# Altium integrated library Maxim Amplifiers and Comparators.IntLib: 420 symbols (part 1 of 16)
Pins are listed as number, name and electrical type; pins without a type are passive.

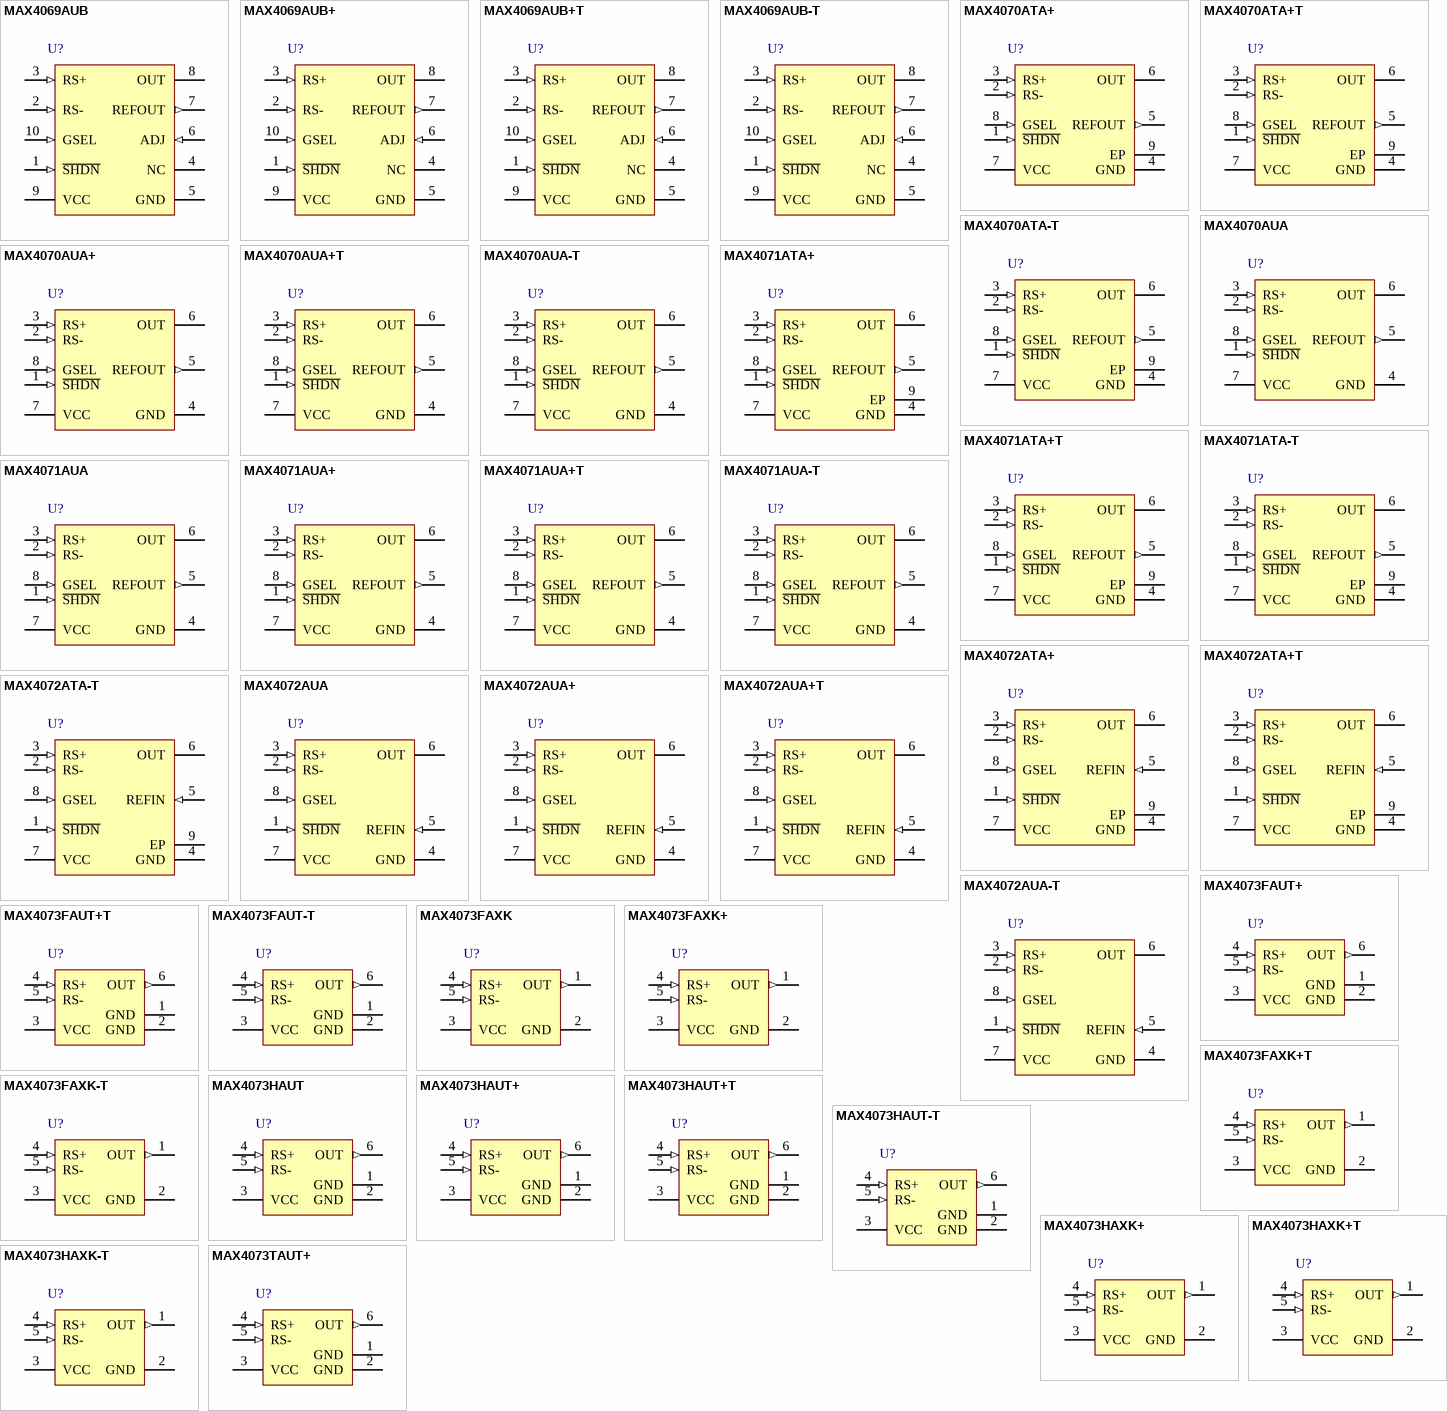
[diagram p0: symbols MAX4069AUB to MAX4073TAUT+]

## MAX4069AUB
designator U?
Bidirectional, High-Side Current-Sense Amplifier with Adjustable Reference, 50 V / V, 100 V / V Gain, -40 to 125 degC, 10-Pin SOP (U10-2); PartNumber: MAX4069AUB; Bi-Dir. Curr. Sense: Yes; Industry Qualified: Automotive - General; DatasheetVersion: Rev. 3; PackageVersion: Rev. L, 07/2008; PackageReference: U10-2; PackageDescription: 10-Pin Micro-MAX, Thin Shrink Small-Outline (U10-2), Body 3 x 3 mm, Pitch 0.5 mm; Supplier 1: Digi-Key; Supplier Part Number 1: MAX4069AUB-ND; Supplier 2: Mouser; Supplier Part Number 2: 700-MAX4069AUB-NR; Gain: 50 V/V, 100 V/V; Mounting Technology: Surface Mount; Code_JEDEC: MO-187; ComponentLink1Description: Manufacturer URL; ComponentLink1URL: http://www.maximintegrated.com/; ComponentLink2Description: Datasheet; ComponentLink2URL: http://datasheets.maximintegrated.com/en/ds/MAX4069-MAX4072.pdf; ComponentLink3Description: Package Specification; ComponentLink3URL: http://pdfserv.maximintegrated.com/package_dwgs/21-0061.PDF
footprint MAXM-U10-2_N (SOP, 10-Leads, Body 3x3mm, Pitch 0.5mm, IPC Medium Density)
footprint MAXM-U10-2_L (SOP, 10-Leads, Body 3x3mm, Pitch 0.5mm, IPC High Density)
footprint MAXM-U10-2_M (SOP, 10-Leads, Body 3x3mm, Pitch 0.5mm, IPC Low Density)
pins: 1 ~{SHDN} (in) "Shutdown Input. Drive S\H\D\N\ low to select shutdown mode. Connect S\H\D\N\ to VCC for normal operation.", 2 RS- (in) "Negative Connection to the External Sense Resistor", 3 RS+ (in) "Positive Connection to the External Sense Resistor", 4 NC "No Connection. Not internally connected.", 5 GND (power) "Ground. For thin QFN packages, also make an external connection from GND to the under-side exposed paddle.", 6 ADJ (in) "Adjustable Output Voltage Feedback Input. Connect a resistor-divider between REFOUT, ADJ, and GND", 7 REFOUT (out) "Reference Output Voltage", 8 OUT (hiz) "Voltage Output. The difference voltage, VOUT - VREF, is proportional to the voltage difference between RS+ and RS- and indicates the correct polarity.", 9 VCC (power) "Supply Voltage Input. Bypass VCC to GND with a 0.1µF capacitor.", 10 GSEL (in) "Gain-Setting Input. Connect GSEL low to select gain = 50V/V, or connect GSEL high to select gain = 100V/V."

## MAX4069AUB+
designator U?
Bidirectional, High-Side Current-Sense Amplifier with Adjustable Reference, 50 V / V, 100 V / V Gain, -40 to 125 degC, 10-Pin SOP (U10+2), Pb-Free; PartNumber: MAX4069AUB+; Bi-Dir. Curr. Sense: Yes; Industry Qualified: Automotive - General; DatasheetVersion: Rev. 3; PackageVersion: Rev. L, 07/2008; PackageReference: U10+2; PackageDescription: 10-Pin Micro-MAX, Thin Shrink Small-Outline (U10+2), Body 3 x 3 mm, Pitch 0.5 mm; Supplier 1: Digi-Key; Supplier Part Number 1: MAX4069AUB+-ND; Supplier 2: Mouser; Supplier Part Number 2: 700-MAX4069AUB; Gain: 50 V/V, 100 V/V; Mounting Technology: Surface Mount; Code_JEDEC: MO-187; ComponentLink1Description: Manufacturer URL; ComponentLink1URL: http://www.maximintegrated.com/; ComponentLink2Description: Datasheet; ComponentLink2URL: http://datasheets.maximintegrated.com/en/ds/MAX4069-MAX4072.pdf; ComponentLink3Description: Package Specification; ComponentLink3URL: http://pdfserv.maximintegrated.com/package_dwgs/21-0061.PDF
footprint MAXM-U10+2_N (SOP, 10-Leads, Body 3x3mm, Pitch 0.5mm, IPC Medium Density)
footprint MAXM-U10+2_L (SOP, 10-Leads, Body 3x3mm, Pitch 0.5mm, IPC High Density)
footprint MAXM-U10+2_M (SOP, 10-Leads, Body 3x3mm, Pitch 0.5mm, IPC Low Density)
pins: 1 ~{SHDN} (in) "Shutdown Input. Drive S\H\D\N\ low to select shutdown mode. Connect S\H\D\N\ to VCC for normal operation.", 2 RS- (in) "Negative Connection to the External Sense Resistor", 3 RS+ (in) "Positive Connection to the External Sense Resistor", 4 NC "No Connection. Not internally connected.", 5 GND (power) "Ground. For thin QFN packages, also make an external connection from GND to the under-side exposed paddle.", 6 ADJ (in) "Adjustable Output Voltage Feedback Input. Connect a resistor-divider between REFOUT, ADJ, and GND", 7 REFOUT (out) "Reference Output Voltage", 8 OUT (hiz) "Voltage Output. The difference voltage, VOUT - VREF, is proportional to the voltage difference between RS+ and RS- and indicates the correct polarity.", 9 VCC (power) "Supply Voltage Input. Bypass VCC to GND with a 0.1µF capacitor.", 10 GSEL (in) "Gain-Setting Input. Connect GSEL low to select gain = 50V/V, or connect GSEL high to select gain = 100V/V."

## MAX4069AUB+T
designator U?
Bidirectional, High-Side Current-Sense Amplifier with Adjustable Reference, 50 V / V, 100 V / V Gain, -40 to 125 degC, 10-Pin SOP (U10+2), Pb-Free, Tape and Reel; PartNumber: MAX4069AUB+T; Bi-Dir. Curr. Sense: Yes; Industry Qualified: Automotive - General; DatasheetVersion: Rev. 3; PackageVersion: Rev. L, 07/2008; PackageReference: U10+2; PackageDescription: 10-Pin Micro-MAX, Thin Shrink Small-Outline (U10+2), Body 3 x 3 mm, Pitch 0.5 mm; Supplier 1: Digi-Key; Supplier Part Number 1: MAX4069AUB+T-ND; Supplier 2: Mouser; Supplier Part Number 2: 700-MAX4069AUB+T; Gain: 50 V/V, 100 V/V; Mounting Technology: Surface Mount; Code_JEDEC: MO-187; ComponentLink1Description: Manufacturer URL; ComponentLink1URL: http://www.maximintegrated.com/; ComponentLink2Description: Datasheet; ComponentLink2URL: http://datasheets.maximintegrated.com/en/ds/MAX4069-MAX4072.pdf; ComponentLink3Description: Package Specification; ComponentLink3URL: http://pdfserv.maximintegrated.com/package_dwgs/21-0061.PDF
footprint MAXM-U10+2_N (SOP, 10-Leads, Body 3x3mm, Pitch 0.5mm, IPC Medium Density)
footprint MAXM-U10+2_L (SOP, 10-Leads, Body 3x3mm, Pitch 0.5mm, IPC High Density)
footprint MAXM-U10+2_M (SOP, 10-Leads, Body 3x3mm, Pitch 0.5mm, IPC Low Density)
pins: 1 ~{SHDN} (in) "Shutdown Input. Drive S\H\D\N\ low to select shutdown mode. Connect S\H\D\N\ to VCC for normal operation.", 2 RS- (in) "Negative Connection to the External Sense Resistor", 3 RS+ (in) "Positive Connection to the External Sense Resistor", 4 NC "No Connection. Not internally connected.", 5 GND (power) "Ground. For thin QFN packages, also make an external connection from GND to the under-side exposed paddle.", 6 ADJ (in) "Adjustable Output Voltage Feedback Input. Connect a resistor-divider between REFOUT, ADJ, and GND", 7 REFOUT (out) "Reference Output Voltage", 8 OUT (hiz) "Voltage Output. The difference voltage, VOUT - VREF, is proportional to the voltage difference between RS+ and RS- and indicates the correct polarity.", 9 VCC (power) "Supply Voltage Input. Bypass VCC to GND with a 0.1µF capacitor.", 10 GSEL (in) "Gain-Setting Input. Connect GSEL low to select gain = 50V/V, or connect GSEL high to select gain = 100V/V."

## MAX4069AUB-T
designator U?
Bidirectional, High-Side Current-Sense Amplifier with Adjustable Reference, 50 V / V, 100 V / V Gain, -40 to 125 degC, 10-Pin SOP (U10-2), Tape and Reel; PartNumber: MAX4069AUB-T; Bi-Dir. Curr. Sense: Yes; Industry Qualified: Automotive - General; DatasheetVersion: Rev. 3; PackageVersion: Rev. L, 07/2008; PackageReference: U10-2; PackageDescription: 10-Pin Micro-MAX, Thin Shrink Small-Outline (U10-2), Body 3 x 3 mm, Pitch 0.5 mm; Supplier 1: Digi-Key; Supplier Part Number 1: MAX4069AUB-T-ND; Supplier 2: Mouser; Supplier Part Number 2: 700-MAX4069AUB-T-; Gain: 50 V/V, 100 V/V; Mounting Technology: Surface Mount; Code_JEDEC: MO-187; ComponentLink1Description: Manufacturer URL; ComponentLink1URL: http://www.maximintegrated.com/; ComponentLink2Description: Datasheet; ComponentLink2URL: http://datasheets.maximintegrated.com/en/ds/MAX4069-MAX4072.pdf; ComponentLink3Description: Package Specification; ComponentLink3URL: http://pdfserv.maximintegrated.com/package_dwgs/21-0061.PDF
footprint MAXM-U10-2_N (SOP, 10-Leads, Body 3x3mm, Pitch 0.5mm, IPC Medium Density)
footprint MAXM-U10-2_L (SOP, 10-Leads, Body 3x3mm, Pitch 0.5mm, IPC High Density)
footprint MAXM-U10-2_M (SOP, 10-Leads, Body 3x3mm, Pitch 0.5mm, IPC Low Density)
pins: 1 ~{SHDN} (in) "Shutdown Input. Drive S\H\D\N\ low to select shutdown mode. Connect S\H\D\N\ to VCC for normal operation.", 2 RS- (in) "Negative Connection to the External Sense Resistor", 3 RS+ (in) "Positive Connection to the External Sense Resistor", 4 NC "No Connection. Not internally connected.", 5 GND (power) "Ground. For thin QFN packages, also make an external connection from GND to the under-side exposed paddle.", 6 ADJ (in) "Adjustable Output Voltage Feedback Input. Connect a resistor-divider between REFOUT, ADJ, and GND", 7 REFOUT (out) "Reference Output Voltage", 8 OUT (hiz) "Voltage Output. The difference voltage, VOUT - VREF, is proportional to the voltage difference between RS+ and RS- and indicates the correct polarity.", 9 VCC (power) "Supply Voltage Input. Bypass VCC to GND with a 0.1µF capacitor.", 10 GSEL (in) "Gain-Setting Input. Connect GSEL low to select gain = 50V/V, or connect GSEL high to select gain = 100V/V."

## MAX4070ATA+
designator U?
Bidirectional, High-Side Current-Sense Amplifier with 2.5 V Reference, 50 V / V, 100 V / V Gain, -40 to 125 degC, 8-Pin SON (T833+2), Pb-Free; PartNumber: MAX4070ATA+; Bi-Dir. Curr. Sense: Yes; Industry Qualified: Automotive - General; DatasheetVersion: Rev. 3; PackageVersion: Rev. J, 08/2009; PackageReference: T833+2; PackageDescription: 8-Pin Plastic Very Very Thin Dual Flatpack No Leads, Exposed Pad (T833+2); Supplier 1: Mouser; Supplier Part Number 1: N/A; Gain: 50 V/V, 100 V/V; Mounting Technology: Surface Mount; Code_JEDEC: MO229; ComponentLink1Description: Manufacturer URL; ComponentLink1URL: http://www.maximintegrated.com/; ComponentLink2Description: Datasheet; ComponentLink2URL: http://datasheets.maximintegrated.com/en/ds/MAX4069-MAX4072.pdf; ComponentLink3Description: Package Specification; ComponentLink3URL: http://pdfserv.maximintegrated.com/package_dwgs/21-0137.PDF
footprint MAXM-T833+2_V (SON, 8-Leads, Body 3x3 mm, Pitch 0.65mm, Thermal Pad 2.3x1.5mm)
pins: 1 ~{SHDN} (in) "Shutdown Input. Drive S\H\D\N\ low to select shutdown mode. Connect S\H\D\N\ to VCC for normal operation.", 2 RS- (in) "Negative Connection to the External Sense Resistor", 3 RS+ (in) "Positive Connection to the External Sense Resistor", 4 GND (power) "Ground. For thin QFN packages, also make an external connection from GND to the under-side exposed paddle.", 5 REFOUT (out) "Reference Output Voltage.", 6 OUT (hiz) "Voltage Output. The difference voltage, VOUT - VREF, is proportional to the voltage difference between RS+ and RS- and indicates the correct polarity.", 7 VCC (power) "Supply Voltage Input. Bypass VCC to GND with a 0.1uF capacitor.", 8 GSEL (in) "Gain-Setting Input. Connect GSEL low to select gain = 50V/V, or connect GSEL high to select gain = 100V/V.", 9 EP (power) "Exposed pad."

## MAX4070ATA+T
designator U?
Bidirectional, High-Side Current-Sense Amplifier with 2.5 V Reference, 50 V / V, 100 V / V Gain, -40 to 125 degC, 8-Pin SON (T833+2), Pb-Free, Tape and Reel; PartNumber: MAX4070ATA+T; Bi-Dir. Curr. Sense: Yes; Industry Qualified: Automotive - General; DatasheetVersion: Rev. 3; PackageVersion: Rev. J, 08/2009; PackageReference: T833+2; PackageDescription: 8-Pin Plastic Very Very Thin Dual Flatpack No Leads, Exposed Pad (T833+2); Supplier 1: Digi-Key; Supplier Part Number 1: MAX4070ATA+T-ND; Supplier 2: Mouser; Supplier Part Number 2: 700-MAX4070ATA+T; Gain: 50 V/V, 100 V/V; Mounting Technology: Surface Mount; Code_JEDEC: MO229; ComponentLink1Description: Manufacturer URL; ComponentLink1URL: http://www.maximintegrated.com/; ComponentLink2Description: Datasheet; ComponentLink2URL: http://datasheets.maximintegrated.com/en/ds/MAX4069-MAX4072.pdf; ComponentLink3Description: Package Specification; ComponentLink3URL: http://pdfserv.maximintegrated.com/package_dwgs/21-0137.PDF
footprint MAXM-T833+2_V (SON, 8-Leads, Body 3x3 mm, Pitch 0.65mm, Thermal Pad 2.3x1.5mm)
pins: 1 ~{SHDN} (in) "Shutdown Input. Drive S\H\D\N\ low to select shutdown mode. Connect S\H\D\N\ to VCC for normal operation.", 2 RS- (in) "Negative Connection to the External Sense Resistor", 3 RS+ (in) "Positive Connection to the External Sense Resistor", 4 GND (power) "Ground. For thin QFN packages, also make an external connection from GND to the under-side exposed paddle.", 5 REFOUT (out) "Reference Output Voltage.", 6 OUT (hiz) "Voltage Output. The difference voltage, VOUT - VREF, is proportional to the voltage difference between RS+ and RS- and indicates the correct polarity.", 7 VCC (power) "Supply Voltage Input. Bypass VCC to GND with a 0.1uF capacitor.", 8 GSEL (in) "Gain-Setting Input. Connect GSEL low to select gain = 50V/V, or connect GSEL high to select gain = 100V/V.", 9 EP (power) "Exposed pad."

## MAX4070ATA-T
designator U?
Bidirectional, High-Side Current-Sense Amplifier with 2.5 V Reference, 50 V / V, 100 V / V Gain, -40 to 125 degC, 8-Pin SON (T833-2), Tape and Reel; PartNumber: MAX4070ATA-T; Bi-Dir. Curr. Sense: Yes; Industry Qualified: Automotive - General; DatasheetVersion: Rev. 3; PackageVersion: Rev. J, 08/2009; PackageReference: T833-2; PackageDescription: 8-Pin Plastic Very Very Thin Dual Flatpack No Leads, Exposed Pad, Body 3 x 3 mm, Pitch 0.65 mm; Supplier 1: Digi-Key; Supplier Part Number 1: MAX4070ATA-T-ND; Supplier 2: Mouser; Supplier Part Number 2: 700-MAX4070ATA-T-; Gain: 50 V/V, 100 V/V; Mounting Technology: Surface Mount; Code_JEDEC: MO229; ComponentLink1Description: Manufacturer URL; ComponentLink1URL: http://www.maximintegrated.com/; ComponentLink2Description: Datasheet; ComponentLink2URL: http://datasheets.maximintegrated.com/en/ds/MAX4069-MAX4072.pdf; ComponentLink3Description: Package Specification; ComponentLink3URL: http://pdfserv.maximintegrated.com/package_dwgs/21-0137.PDF
footprint MAXM-T833-2_V (SON, 8-Leads, Body 3x3mm, Pitch 0.65mm, Thermal Pad 2.3x1.5mm, Recommended)
pins: 1 ~{SHDN} (in) "Shutdown Input. Drive S\H\D\N\ low to select shutdown mode. Connect S\H\D\N\ to VCC for normal operation.", 2 RS- (in) "Negative Connection to the External Sense Resistor", 3 RS+ (in) "Positive Connection to the External Sense Resistor", 4 GND (power) "Ground. For thin QFN packages, also make an external connection from GND to the under-side exposed paddle.", 5 REFOUT (out) "Reference Output Voltage.", 6 OUT (hiz) "Voltage Output. The difference voltage, VOUT - VREF, is proportional to the voltage difference between RS+ and RS- and indicates the correct polarity.", 7 VCC (power) "Supply Voltage Input. Bypass VCC to GND with a 0.1uF capacitor.", 8 GSEL (in) "Gain-Setting Input. Connect GSEL low to select gain = 50V/V, or connect GSEL high to select gain = 100V/V.", 9 EP (power) "Exposed pad."

## MAX4070AUA
designator U?
Bidirectional, High-Side Current-Sense Amplifier with 2.5 V Reference, 50 V / V, 100 V / V Gain, -40 to 125 degC, 8-Pin SOP (U8-1); PartNumber: MAX4070AUA; Bi-Dir. Curr. Sense: Yes; Industry Qualified: Automotive - General; DatasheetVersion: Rev. 3; PackageVersion: Rev. L, 08/2009; PackageReference: U8-1; PackageDescription: 8-Pin Micro-MAX, Thin Shrink Small-Outline (U8-1), Body 3 x 3 mm, Pitch 0.65mm; Supplier 1: Digi-Key; Supplier Part Number 1: MAX4070AUA-ND; Supplier 2: Mouser; Supplier Part Number 2: 700-MAX4070AUA-NR; Gain: 50 V/V, 100 V/V; Mounting Technology: Surface Mount; Code_JEDEC: MO-187; ComponentLink1Description: Manufacturer URL; ComponentLink1URL: http://www.maximintegrated.com/; ComponentLink2Description: Datasheet; ComponentLink2URL: http://datasheets.maximintegrated.com/en/ds/MAX4069-MAX4072.pdf; ComponentLink3Description: Package Specification; ComponentLink3URL: http://pdfserv.maximintegrated.com/package_dwgs/21-0036.PDF
footprint MAXM-U8-1_N (SOP, 8-Leads, Body 3x3mm, Pitch 0.65mm, IPC Medium Density)
footprint MAXM-U8-1_L (SOP, 8-Leads, Body 3x3mm, Pitch 0.65mm, IPC High Density)
footprint MAXM-U8-1_M (SOP, 8-Leads, Body 3x3mm, Pitch 0.65mm, IPC Low Density)
pins: 1 ~{SHDN} (in) "Shutdown Input. Drive SHDN low to select shutdown mode. Connect SHDN to VCC for normal operation.", 2 RS- (in) "Negative Connection to the External Sense Resistor", 3 RS+ (in) "Positive Connection to the External Sense Resistor", 4 GND (power) "Ground. For thin QFN packages, also make an external connection from GND to the under-side exposed paddle.", 5 REFOUT (out) "Reference Output Voltage.", 6 OUT (hiz) "Voltage Output. The difference voltage, VOUT - VREF, is proportional to the voltage difference between RS+ and RS- and indicates the correct polarity.", 7 VCC (power) "Supply Voltage Input. Bypass VCC to GND with a 0.1uF capacitor.", 8 GSEL (in) "Gain-Setting Input. Connect GSEL low to select gain = 50V/V, or connect GSEL high to select gain = 100V/V."

## MAX4070AUA+
designator U?
Bidirectional, High-Side Current-Sense Amplifier with 2.5 V Reference, 50 V / V, 100 V / V Gain, -40 to 125 degC, 8-Pin SOP (U8+1), Pb-Free; PartNumber: MAX4070AUA+; Bi-Dir. Curr. Sense: Yes; Industry Qualified: Automotive - General; DatasheetVersion: Rev. 3; PackageVersion: Rev. L, 08/2009; PackageReference: U8+1; PackageDescription: 8-Pin Micro-MAX, Thin Shrink Small-Outline (U8+1), Body 3 x 3 mm, Pitch 0.65 mm; Supplier 1: Digi-Key; Supplier Part Number 1: MAX4070AUA+-ND; Supplier 2: Mouser; Supplier Part Number 2: 700-MAX4070AUA; Gain: 50 V/V, 100 V/V; Mounting Technology: Surface Mount; Code_JEDEC: MO-187; ComponentLink1Description: Manufacturer URL; ComponentLink1URL: http://www.maximintegrated.com/; ComponentLink2Description: Datasheet; ComponentLink2URL: http://datasheets.maximintegrated.com/en/ds/MAX4069-MAX4072.pdf; ComponentLink3Description: Package Specification; ComponentLink3URL: http://pdfserv.maximintegrated.com/package_dwgs/21-0036.PDF
footprint MAXM-U8+1_N (SOP, 8-Leads, Body 3x3mm, Pitch 0.65mm, IPC Medium Density)
footprint MAXM-U8+1_L (SOP, 8-Leads, Body 3x3mm, Pitch 0.65mm, IPC High Density)
footprint MAXM-U8+1_M (SOP, 8-Leads, Body 3x3mm, Pitch 0.65mm, IPC Low Density)
pins: 1 ~{SHDN} (in) "Shutdown Input. Drive SHDN low to select shutdown mode. Connect SHDN to VCC for normal operation.", 2 RS- (in) "Negative Connection to the External Sense Resistor", 3 RS+ (in) "Positive Connection to the External Sense Resistor", 4 GND (power) "Ground. For thin QFN packages, also make an external connection from GND to the under-side exposed paddle.", 5 REFOUT (out) "Reference Output Voltage.", 6 OUT (hiz) "Voltage Output. The difference voltage, VOUT - VREF, is proportional to the voltage difference between RS+ and RS- and indicates the correct polarity.", 7 VCC (power) "Supply Voltage Input. Bypass VCC to GND with a 0.1uF capacitor.", 8 GSEL (in) "Gain-Setting Input. Connect GSEL low to select gain = 50V/V, or connect GSEL high to select gain = 100V/V."

## MAX4070AUA+T
designator U?
Bidirectional, High-Side Current-Sense Amplifier with 2.5 V Reference, 50 V / V, 100 V / V Gain, -40 to 125 degC, 8-Pin SOP (U8+1), Pb-Free, Tape and Reel; PartNumber: MAX4070AUA+T; Bi-Dir. Curr. Sense: Yes; Industry Qualified: Automotive - General; DatasheetVersion: Rev. 3; PackageVersion: Rev. L, 08/2009; PackageReference: U8+1; PackageDescription: 8-Pin Micro-MAX, Thin Shrink Small-Outline (U8+1), Body 3 x 3 mm, Pitch 0.65 mm; Supplier 1: Digi-Key; Supplier Part Number 1: MAX4070AUA+T-ND; Supplier 2: Mouser; Supplier Part Number 2: 700-MAX4070AUA+T; Gain: 50 V/V, 100 V/V; Mounting Technology: Surface Mount; Code_JEDEC: MO-187; ComponentLink1Description: Manufacturer URL; ComponentLink1URL: http://www.maximintegrated.com/; ComponentLink2Description: Datasheet; ComponentLink2URL: http://datasheets.maximintegrated.com/en/ds/MAX4069-MAX4072.pdf; ComponentLink3Description: Package Specification; ComponentLink3URL: http://pdfserv.maximintegrated.com/package_dwgs/21-0036.PDF
footprint MAXM-U8+1_N (SOP, 8-Leads, Body 3x3mm, Pitch 0.65mm, IPC Medium Density)
footprint MAXM-U8+1_L (SOP, 8-Leads, Body 3x3mm, Pitch 0.65mm, IPC High Density)
footprint MAXM-U8+1_M (SOP, 8-Leads, Body 3x3mm, Pitch 0.65mm, IPC Low Density)
pins: 1 ~{SHDN} (in) "Shutdown Input. Drive SHDN low to select shutdown mode. Connect SHDN to VCC for normal operation.", 2 RS- (in) "Negative Connection to the External Sense Resistor", 3 RS+ (in) "Positive Connection to the External Sense Resistor", 4 GND (power) "Ground. For thin QFN packages, also make an external connection from GND to the under-side exposed paddle.", 5 REFOUT (out) "Reference Output Voltage.", 6 OUT (hiz) "Voltage Output. The difference voltage, VOUT - VREF, is proportional to the voltage difference between RS+ and RS- and indicates the correct polarity.", 7 VCC (power) "Supply Voltage Input. Bypass VCC to GND with a 0.1uF capacitor.", 8 GSEL (in) "Gain-Setting Input. Connect GSEL low to select gain = 50V/V, or connect GSEL high to select gain = 100V/V."

## MAX4070AUA-T
designator U?
Bidirectional, High-Side Current-Sense Amplifier with 2.5 V Reference, 50 V / V, 100 V / V Gain, -40 to 125 degC, 8-Pin SOP (U8-1), Tape and Reel; PartNumber: MAX4070AUA-T; Bi-Dir. Curr. Sense: Yes; Industry Qualified: Automotive - General; DatasheetVersion: Rev. 3; PackageVersion: Rev. L, 08/2009; PackageReference: U8-1; PackageDescription: 8-Pin Micro-MAX, Thin Shrink Small-Outline (U8-1), Body 3 x 3 mm, Pitch 0.65mm; Supplier 1: Digi-Key; Supplier Part Number 1: MAX4070AUA-T-ND; Supplier 2: Mouser; Supplier Part Number 2: 700-MAX4070AUA-T-; Gain: 50 V/V, 100 V/V; Mounting Technology: Surface Mount; Code_JEDEC: MO-187; ComponentLink1Description: Manufacturer URL; ComponentLink1URL: http://www.maximintegrated.com/; ComponentLink2Description: Datasheet; ComponentLink2URL: http://datasheets.maximintegrated.com/en/ds/MAX4069-MAX4072.pdf; ComponentLink3Description: Package Specification; ComponentLink3URL: http://pdfserv.maximintegrated.com/package_dwgs/21-0036.PDF
footprint MAXM-U8-1_N (SOP, 8-Leads, Body 3x3mm, Pitch 0.65mm, IPC Medium Density)
footprint MAXM-U8-1_L (SOP, 8-Leads, Body 3x3mm, Pitch 0.65mm, IPC High Density)
footprint MAXM-U8-1_M (SOP, 8-Leads, Body 3x3mm, Pitch 0.65mm, IPC Low Density)
pins: 1 ~{SHDN} (in) "Shutdown Input. Drive SHDN low to select shutdown mode. Connect SHDN to VCC for normal operation.", 2 RS- (in) "Negative Connection to the External Sense Resistor", 3 RS+ (in) "Positive Connection to the External Sense Resistor", 4 GND (power) "Ground. For thin QFN packages, also make an external connection from GND to the under-side exposed paddle.", 5 REFOUT (out) "Reference Output Voltage.", 6 OUT (hiz) "Voltage Output. The difference voltage, VOUT - VREF, is proportional to the voltage difference between RS+ and RS- and indicates the correct polarity.", 7 VCC (power) "Supply Voltage Input. Bypass VCC to GND with a 0.1uF capacitor.", 8 GSEL (in) "Gain-Setting Input. Connect GSEL low to select gain = 50V/V, or connect GSEL high to select gain = 100V/V."

## MAX4071ATA+
designator U?
Bidirectional, High-Side Current-Sense Amplifier with 1.5 V Reference, 50 V / V, 100 V / V Gain, -40 to 125 degC, 8-Pin SON (T833+2), Pb-Free; PartNumber: MAX4071ATA+; Bi-Dir. Curr. Sense: Yes; Industry Qualified: Automotive - General; DatasheetVersion: Rev. 3; PackageVersion: Rev. J, 08/2009; PackageReference: T833+2; PackageDescription: 8-Pin Plastic Very Very Thin Dual Flatpack No Leads, Exposed Pad (T833+2); Supplier 1: Mouser; Supplier Part Number 1: N/A; Gain: 50 V/V, 100 V/V; Mounting Technology: Surface Mount; Code_JEDEC: MO229; ComponentLink1Description: Manufacturer URL; ComponentLink1URL: http://www.maximintegrated.com/; ComponentLink2Description: Datasheet; ComponentLink2URL: http://datasheets.maximintegrated.com/en/ds/MAX4069-MAX4072.pdf; ComponentLink3Description: Package Specification; ComponentLink3URL: http://pdfserv.maximintegrated.com/package_dwgs/21-0137.PDF
footprint MAXM-T833+2_V (SON, 8-Leads, Body 3x3 mm, Pitch 0.65mm, Thermal Pad 2.3x1.5mm)
pins: 1 ~{SHDN} (in) "Shutdown Input. Drive S\H\D\N\ low to select shutdown mode. Connect S\H\D\N\ to VCC for normal operation.", 2 RS- (in) "Negative Connection to the External Sense Resistor", 3 RS+ (in) "Positive Connection to the External Sense Resistor", 4 GND (power) "Ground. For thin QFN packages, also make an external connection from GND to the under-side exposed paddle.", 5 REFOUT (out) "Reference Output Voltage.", 6 OUT (hiz) "Voltage Output. The difference voltage, VOUT - VREF, is proportional to the voltage difference between RS+ and RS- and indicates the correct polarity.", 7 VCC (power) "Supply Voltage Input. Bypass VCC to GND with a 0.1uF capacitor.", 8 GSEL (in) "Gain-Setting Input. Connect GSEL low to select gain = 50V/V, or connect GSEL high to select gain = 100V/V.", 9 EP (power) "Exposed pad."

## MAX4071ATA+T
designator U?
Bidirectional, High-Side Current-Sense Amplifier with 1.5 V Reference, 50 V / V, 100 V / V Gain, -40 to 125 degC, 8-Pin SON (T833+2), Pb-Free, Tape and Reel; PartNumber: MAX4071ATA+T; Bi-Dir. Curr. Sense: Yes; Industry Qualified: Automotive - General; DatasheetVersion: Rev. 3; PackageVersion: Rev. J, 08/2009; PackageReference: T833+2; PackageDescription: 8-Pin Plastic Very Very Thin Dual Flatpack No Leads, Exposed Pad (T833+2); Supplier 1: Digi-Key; Supplier Part Number 1: MAX4071ATA+TTR-ND; Supplier 2: Digi-Key; Supplier Part Number 2: MAX4071ATA+TCT-ND; Supplier 3: Digi-Key; Supplier Part Number 3: MAX4071ATA+TDKR-ND; Supplier 4: Mouser; Supplier Part Number 4: 700-MAX4071ATA+T; Gain: 50 V/V, 100 V/V; Mounting Technology: Surface Mount; Code_JEDEC: MO229; ComponentLink1Description: Manufacturer URL; ComponentLink1URL: http://www.maximintegrated.com/; ComponentLink2Description: Datasheet; ComponentLink2URL: http://datasheets.maximintegrated.com/en/ds/MAX4069-MAX4072.pdf; ComponentLink3Description: Package Specification; ComponentLink3URL: http://pdfserv.maximintegrated.com/package_dwgs/21-0137.PDF
footprint MAXM-T833+2_V (SON, 8-Leads, Body 3x3 mm, Pitch 0.65mm, Thermal Pad 2.3x1.5mm)
pins: 1 ~{SHDN} (in) "Shutdown Input. Drive S\H\D\N\ low to select shutdown mode. Connect S\H\D\N\ to VCC for normal operation.", 2 RS- (in) "Negative Connection to the External Sense Resistor", 3 RS+ (in) "Positive Connection to the External Sense Resistor", 4 GND (power) "Ground. For thin QFN packages, also make an external connection from GND to the under-side exposed paddle.", 5 REFOUT (out) "Reference Output Voltage.", 6 OUT (hiz) "Voltage Output. The difference voltage, VOUT - VREF, is proportional to the voltage difference between RS+ and RS- and indicates the correct polarity.", 7 VCC (power) "Supply Voltage Input. Bypass VCC to GND with a 0.1uF capacitor.", 8 GSEL (in) "Gain-Setting Input. Connect GSEL low to select gain = 50V/V, or connect GSEL high to select gain = 100V/V.", 9 EP (power) "Exposed pad."

## MAX4071ATA-T
designator U?
Bidirectional, High-Side Current-Sense Amplifier with 1.5 V Reference, 50 V / V, 100 V / V Gain, -40 to 125 degC, 8-Pin SON (T833-2), Tape and Reel; PartNumber: MAX4071ATA-T; Bi-Dir. Curr. Sense: Yes; Industry Qualified: Automotive - General; DatasheetVersion: Rev. 3; PackageVersion: Rev. J, 08/2009; PackageReference: T833-2; PackageDescription: 8-Pin Plastic Very Very Thin Dual Flatpack No Leads, Exposed Pad, Body 3 x 3 mm, Pitch 0.65 mm; Supplier 1: Digi-Key; Supplier Part Number 1: MAX4071ATA-T-ND; Supplier 2: Mouser; Supplier Part Number 2: 700-MAX4071ATA-T-; Gain: 50 V/V, 100 V/V; Mounting Technology: Surface Mount; Code_JEDEC: MO229; ComponentLink1Description: Manufacturer URL; ComponentLink1URL: http://www.maximintegrated.com/; ComponentLink2Description: Datasheet; ComponentLink2URL: http://datasheets.maximintegrated.com/en/ds/MAX4069-MAX4072.pdf; ComponentLink3Description: Package Specification; ComponentLink3URL: http://pdfserv.maximintegrated.com/package_dwgs/21-0137.PDF
footprint MAXM-T833-2_V (SON, 8-Leads, Body 3x3mm, Pitch 0.65mm, Thermal Pad 2.3x1.5mm, Recommended)
pins: 1 ~{SHDN} (in) "Shutdown Input. Drive S\H\D\N\ low to select shutdown mode. Connect S\H\D\N\ to VCC for normal operation.", 2 RS- (in) "Negative Connection to the External Sense Resistor", 3 RS+ (in) "Positive Connection to the External Sense Resistor", 4 GND (power) "Ground. For thin QFN packages, also make an external connection from GND to the under-side exposed paddle.", 5 REFOUT (out) "Reference Output Voltage.", 6 OUT (hiz) "Voltage Output. The difference voltage, VOUT - VREF, is proportional to the voltage difference between RS+ and RS- and indicates the correct polarity.", 7 VCC (power) "Supply Voltage Input. Bypass VCC to GND with a 0.1uF capacitor.", 8 GSEL (in) "Gain-Setting Input. Connect GSEL low to select gain = 50V/V, or connect GSEL high to select gain = 100V/V.", 9 EP (power) "Exposed pad."

## MAX4071AUA
designator U?
Bidirectional, High-Side Current-Sense Amplifier with 1.5 V Reference, 50 V / V, 100 V / V Gain, -40 to 125 degC, 8-Pin SOP (U8-1); PartNumber: MAX4071AUA; Bi-Dir. Curr. Sense: Yes; Industry Qualified: Automotive - General; DatasheetVersion: Rev. 3; PackageVersion: Rev. L, 08/2009; PackageReference: U8-1; PackageDescription: 8-Pin Micro-MAX, Thin Shrink Small-Outline (U8-1), Body 3 x 3 mm, Pitch 0.65mm; Supplier 1: Digi-Key; Supplier Part Number 1: MAX4071AUA-ND; Supplier 2: Mouser; Supplier Part Number 2: 700-MAX4071AUA-NR; Gain: 50 V/V, 100 V/V; Mounting Technology: Surface Mount; Code_JEDEC: MO-187; ComponentLink1Description: Manufacturer URL; ComponentLink1URL: http://www.maximintegrated.com/; ComponentLink2Description: Datasheet; ComponentLink2URL: http://datasheets.maximintegrated.com/en/ds/MAX4069-MAX4072.pdf; ComponentLink3Description: Package Specification; ComponentLink3URL: http://pdfserv.maximintegrated.com/package_dwgs/21-0036.PDF
footprint MAXM-U8-1_N (SOP, 8-Leads, Body 3x3mm, Pitch 0.65mm, IPC Medium Density)
footprint MAXM-U8-1_L (SOP, 8-Leads, Body 3x3mm, Pitch 0.65mm, IPC High Density)
footprint MAXM-U8-1_M (SOP, 8-Leads, Body 3x3mm, Pitch 0.65mm, IPC Low Density)
pins: 1 ~{SHDN} (in) "Shutdown Input. Drive SHDN low to select shutdown mode. Connect SHDN to VCC for normal operation.", 2 RS- (in) "Negative Connection to the External Sense Resistor", 3 RS+ (in) "Positive Connection to the External Sense Resistor", 4 GND (power) "Ground. For thin QFN packages, also make an external connection from GND to the under-side exposed paddle.", 5 REFOUT (out) "Reference Output Voltage.", 6 OUT (hiz) "Voltage Output. The difference voltage, VOUT - VREF, is proportional to the voltage difference between RS+ and RS- and indicates the correct polarity.", 7 VCC (power) "Supply Voltage Input. Bypass VCC to GND with a 0.1uF capacitor.", 8 GSEL (in) "Gain-Setting Input. Connect GSEL low to select gain = 50V/V, or connect GSEL high to select gain = 100V/V."

## MAX4071AUA+
designator U?
Bidirectional, High-Side Current-Sense Amplifier with 1.5 V Reference, 50 V / V, 100 V / V Gain, -40 to 125 degC, 8-Pin SOP (U8+1), Pb-Free; PartNumber: MAX4071AUA+; Bi-Dir. Curr. Sense: Yes; Industry Qualified: Automotive - General; DatasheetVersion: Rev. 3; PackageVersion: Rev. L, 08/2009; PackageReference: U8+1; PackageDescription: 8-Pin Micro-MAX, Thin Shrink Small-Outline (U8+1), Body 3 x 3 mm, Pitch 0.65 mm; Supplier 1: Digi-Key; Supplier Part Number 1: MAX4071AUA+-ND; Supplier 2: Mouser; Supplier Part Number 2: 700-MAX4071AUA; Gain: 50 V/V, 100 V/V; Mounting Technology: Surface Mount; Code_JEDEC: MO-187; ComponentLink1Description: Manufacturer URL; ComponentLink1URL: http://www.maximintegrated.com/; ComponentLink2Description: Datasheet; ComponentLink2URL: http://datasheets.maximintegrated.com/en/ds/MAX4069-MAX4072.pdf; ComponentLink3Description: Package Specification; ComponentLink3URL: http://pdfserv.maximintegrated.com/package_dwgs/21-0036.PDF
footprint MAXM-U8+1_N (SOP, 8-Leads, Body 3x3mm, Pitch 0.65mm, IPC Medium Density)
footprint MAXM-U8+1_L (SOP, 8-Leads, Body 3x3mm, Pitch 0.65mm, IPC High Density)
footprint MAXM-U8+1_M (SOP, 8-Leads, Body 3x3mm, Pitch 0.65mm, IPC Low Density)
pins: 1 ~{SHDN} (in) "Shutdown Input. Drive SHDN low to select shutdown mode. Connect SHDN to VCC for normal operation.", 2 RS- (in) "Negative Connection to the External Sense Resistor", 3 RS+ (in) "Positive Connection to the External Sense Resistor", 4 GND (power) "Ground. For thin QFN packages, also make an external connection from GND to the under-side exposed paddle.", 5 REFOUT (out) "Reference Output Voltage.", 6 OUT (hiz) "Voltage Output. The difference voltage, VOUT - VREF, is proportional to the voltage difference between RS+ and RS- and indicates the correct polarity.", 7 VCC (power) "Supply Voltage Input. Bypass VCC to GND with a 0.1uF capacitor.", 8 GSEL (in) "Gain-Setting Input. Connect GSEL low to select gain = 50V/V, or connect GSEL high to select gain = 100V/V."

## MAX4071AUA+T
designator U?
Bidirectional, High-Side Current-Sense Amplifier with 1.5 V Reference, 50 V / V, 100 V / V Gain, -40 to 125 degC, 8-Pin SOP (U8+1), Pb-Free, Tape and Reel; PartNumber: MAX4071AUA+T; Bi-Dir. Curr. Sense: Yes; Industry Qualified: Automotive - General; DatasheetVersion: Rev. 3; PackageVersion: Rev. L, 08/2009; PackageReference: U8+1; PackageDescription: 8-Pin Micro-MAX, Thin Shrink Small-Outline (U8+1), Body 3 x 3 mm, Pitch 0.65 mm; Supplier 1: Digi-Key; Supplier Part Number 1: MAX4071AUA+T-ND; Supplier 2: Mouser; Supplier Part Number 2: 700-MAX4071AUA+T; Gain: 50 V/V, 100 V/V; Mounting Technology: Surface Mount; Code_JEDEC: MO-187; ComponentLink1Description: Manufacturer URL; ComponentLink1URL: http://www.maximintegrated.com/; ComponentLink2Description: Datasheet; ComponentLink2URL: http://datasheets.maximintegrated.com/en/ds/MAX4069-MAX4072.pdf; ComponentLink3Description: Package Specification; ComponentLink3URL: http://pdfserv.maximintegrated.com/package_dwgs/21-0036.PDF
footprint MAXM-U8+1_N (SOP, 8-Leads, Body 3x3mm, Pitch 0.65mm, IPC Medium Density)
footprint MAXM-U8+1_L (SOP, 8-Leads, Body 3x3mm, Pitch 0.65mm, IPC High Density)
footprint MAXM-U8+1_M (SOP, 8-Leads, Body 3x3mm, Pitch 0.65mm, IPC Low Density)
pins: 1 ~{SHDN} (in) "Shutdown Input. Drive SHDN low to select shutdown mode. Connect SHDN to VCC for normal operation.", 2 RS- (in) "Negative Connection to the External Sense Resistor", 3 RS+ (in) "Positive Connection to the External Sense Resistor", 4 GND (power) "Ground. For thin QFN packages, also make an external connection from GND to the under-side exposed paddle.", 5 REFOUT (out) "Reference Output Voltage.", 6 OUT (hiz) "Voltage Output. The difference voltage, VOUT - VREF, is proportional to the voltage difference between RS+ and RS- and indicates the correct polarity.", 7 VCC (power) "Supply Voltage Input. Bypass VCC to GND with a 0.1uF capacitor.", 8 GSEL (in) "Gain-Setting Input. Connect GSEL low to select gain = 50V/V, or connect GSEL high to select gain = 100V/V."

## MAX4071AUA-T
designator U?
Bidirectional, High-Side Current-Sense Amplifier with 1.5 V Reference, 50 V / V, 100 V / V Gain, -40 to 125 degC, 8-Pin SOP (U8-1), Tape and Reel; PartNumber: MAX4071AUA-T; Bi-Dir. Curr. Sense: Yes; Industry Qualified: Automotive - General; DatasheetVersion: Rev. 3; PackageVersion: Rev. L, 08/2009; PackageReference: U8-1; PackageDescription: 8-Pin Micro-MAX, Thin Shrink Small-Outline (U8-1), Body 3 x 3 mm, Pitch 0.65mm; Supplier 1: Digi-Key; Supplier Part Number 1: MAX4071AUA-T-ND; Supplier 2: Mouser; Supplier Part Number 2: 700-MAX4071AUA-T-; Gain: 50 V/V, 100 V/V; Mounting Technology: Surface Mount; Code_JEDEC: MO-187; ComponentLink1Description: Manufacturer URL; ComponentLink1URL: http://www.maximintegrated.com/; ComponentLink2Description: Datasheet; ComponentLink2URL: http://datasheets.maximintegrated.com/en/ds/MAX4069-MAX4072.pdf; ComponentLink3Description: Package Specification; ComponentLink3URL: http://pdfserv.maximintegrated.com/package_dwgs/21-0036.PDF
footprint MAXM-U8-1_N (SOP, 8-Leads, Body 3x3mm, Pitch 0.65mm, IPC Medium Density)
footprint MAXM-U8-1_L (SOP, 8-Leads, Body 3x3mm, Pitch 0.65mm, IPC High Density)
footprint MAXM-U8-1_M (SOP, 8-Leads, Body 3x3mm, Pitch 0.65mm, IPC Low Density)
pins: 1 ~{SHDN} (in) "Shutdown Input. Drive SHDN low to select shutdown mode. Connect SHDN to VCC for normal operation.", 2 RS- (in) "Negative Connection to the External Sense Resistor", 3 RS+ (in) "Positive Connection to the External Sense Resistor", 4 GND (power) "Ground. For thin QFN packages, also make an external connection from GND to the under-side exposed paddle.", 5 REFOUT (out) "Reference Output Voltage.", 6 OUT (hiz) "Voltage Output. The difference voltage, VOUT - VREF, is proportional to the voltage difference between RS+ and RS- and indicates the correct polarity.", 7 VCC (power) "Supply Voltage Input. Bypass VCC to GND with a 0.1uF capacitor.", 8 GSEL (in) "Gain-Setting Input. Connect GSEL low to select gain = 50V/V, or connect GSEL high to select gain = 100V/V."

## MAX4072ATA+
designator U?
Bidirectional, High-Side Current-Sense Amplifier with Reference Input, 50 V / V, 100 V / V Gain, -40 to 125 degC, 8-Pin SON (T833+2), Pb-Free; PartNumber: MAX4072ATA+; Bi-Dir. Curr. Sense: Yes; Industry Qualified: Automotive - General; DatasheetVersion: Rev. 3; PackageVersion: Rev. J, 08/2009; PackageReference: T833+2; PackageDescription: 8-Pin Plastic Very Very Thin Dual Flatpack No Leads, Exposed Pad (T833+2); Supplier 1: Mouser; Supplier Part Number 1: N/A; Gain: 50 V/V, 100 V/V; Mounting Technology: Surface Mount; Code_JEDEC: MO229; ComponentLink1Description: Manufacturer URL; ComponentLink1URL: http://www.maximintegrated.com/; ComponentLink2Description: Datasheet; ComponentLink2URL: http://datasheets.maximintegrated.com/en/ds/MAX4069-MAX4072.pdf; ComponentLink3Description: Package Specification; ComponentLink3URL: http://pdfserv.maximintegrated.com/package_dwgs/21-0137.PDF
footprint MAXM-T833+2_V (SON, 8-Leads, Body 3x3 mm, Pitch 0.65mm, Thermal Pad 2.3x1.5mm)
pins: 1 ~{SHDN} (in) "Shutdown Input. Drive S\H\D\N\ low to select shutdown mode. Connect S\H\D\N\ to VCC for normal operation.", 2 RS- (in) "Negative Connection to the External Sense Resistor", 3 RS+ (in) "Positive Connection to the External Sense Resistor", 4 GND (power) "Ground. For thin QFN packages, also make an external connection from GND to the under-side exposed paddle.", 5 REFIN (in) "Reference Input Voltage.", 6 OUT (hiz) "Voltage Output. The difference voltage, VOUT - VREF, is proportional to the voltage difference between RS+ and RS- and indicates the correct polarity.", 7 VCC (power) "Supply Voltage Input. Bypass VCC to GND with a 0.1uF capacitor.", 8 GSEL (in) "Gain-Setting Input. Connect GSEL low to select gain = 50V/V, or connect GSEL high to select gain = 100V/V.", 9 EP (power) "Exposed pad."

## MAX4072ATA+T
designator U?
Bidirectional, High-Side Current-Sense Amplifier with Reference Input, 50 V / V, 100 V / V Gain, -40 to 125 degC, 8-Pin SON (T833+2), Pb-Free, Tape and Reel; PartNumber: MAX4072ATA+T; Bi-Dir. Curr. Sense: Yes; Industry Qualified: Automotive - General; DatasheetVersion: Rev. 3; PackageVersion: Rev. J, 08/2009; PackageReference: T833+2; PackageDescription: 8-Pin Plastic Very Very Thin Dual Flatpack No Leads, Exposed Pad (T833+2); Supplier 1: Digi-Key; Supplier Part Number 1: MAX4072ATA+T-ND; Supplier 2: Mouser; Supplier Part Number 2: 700-MAX4072ATA+T; Gain: 50 V/V, 100 V/V; Mounting Technology: Surface Mount; Code_JEDEC: MO229; ComponentLink1Description: Manufacturer URL; ComponentLink1URL: http://www.maximintegrated.com/; ComponentLink2Description: Datasheet; ComponentLink2URL: http://datasheets.maximintegrated.com/en/ds/MAX4069-MAX4072.pdf; ComponentLink3Description: Package Specification; ComponentLink3URL: http://pdfserv.maximintegrated.com/package_dwgs/21-0137.PDF
footprint MAXM-T833+2_V (SON, 8-Leads, Body 3x3 mm, Pitch 0.65mm, Thermal Pad 2.3x1.5mm)
pins: 1 ~{SHDN} (in) "Shutdown Input. Drive S\H\D\N\ low to select shutdown mode. Connect S\H\D\N\ to VCC for normal operation.", 2 RS- (in) "Negative Connection to the External Sense Resistor", 3 RS+ (in) "Positive Connection to the External Sense Resistor", 4 GND (power) "Ground. For thin QFN packages, also make an external connection from GND to the under-side exposed paddle.", 5 REFIN (in) "Reference Input Voltage.", 6 OUT (hiz) "Voltage Output. The difference voltage, VOUT - VREF, is proportional to the voltage difference between RS+ and RS- and indicates the correct polarity.", 7 VCC (power) "Supply Voltage Input. Bypass VCC to GND with a 0.1uF capacitor.", 8 GSEL (in) "Gain-Setting Input. Connect GSEL low to select gain = 50V/V, or connect GSEL high to select gain = 100V/V.", 9 EP (power) "Exposed pad."

## MAX4072ATA-T
designator U?
Bidirectional, High-Side Current-Sense Amplifier with Reference Input, 50 V / V, 100 V / V Gain, -40 to 125 degC, 8-Pin SON (T833-2), Tape and Reel; PartNumber: MAX4072ATA-T; Bi-Dir. Curr. Sense: Yes; Industry Qualified: Automotive - General; DatasheetVersion: Rev. 3; PackageVersion: Rev. J, 08/2009; PackageReference: T833-2; PackageDescription: 8-Pin Plastic Very Very Thin Dual Flatpack No Leads, Exposed Pad, Body 3 x 3 mm, Pitch 0.65 mm; Supplier 1: Digi-Key; Supplier Part Number 1: MAX4072ATA-T-ND; Supplier 2: Mouser; Supplier Part Number 2: 700-MAX4072ATA-T-; Gain: 50 V/V, 100 V/V; Mounting Technology: Surface Mount; Code_JEDEC: MO229; ComponentLink1Description: Manufacturer URL; ComponentLink1URL: http://www.maximintegrated.com/; ComponentLink2Description: Datasheet; ComponentLink2URL: http://datasheets.maximintegrated.com/en/ds/MAX4069-MAX4072.pdf; ComponentLink3Description: Package Specification; ComponentLink3URL: http://pdfserv.maximintegrated.com/package_dwgs/21-0137.PDF
footprint MAXM-T833-2_V (SON, 8-Leads, Body 3x3mm, Pitch 0.65mm, Thermal Pad 2.3x1.5mm, Recommended)
pins: 1 ~{SHDN} (in) "Shutdown Input. Drive S\H\D\N\ low to select shutdown mode. Connect S\H\D\N\ to VCC for normal operation.", 2 RS- (in) "Negative Connection to the External Sense Resistor", 3 RS+ (in) "Positive Connection to the External Sense Resistor", 4 GND (power) "Ground. For thin QFN packages, also make an external connection from GND to the under-side exposed paddle.", 5 REFIN (in) "Reference Input Voltage.", 6 OUT (hiz) "Voltage Output. The difference voltage, VOUT - VREF, is proportional to the voltage difference between RS+ and RS- and indicates the correct polarity.", 7 VCC (power) "Supply Voltage Input. Bypass VCC to GND with a 0.1uF capacitor.", 8 GSEL (in) "Gain-Setting Input. Connect GSEL low to select gain = 50V/V, or connect GSEL high to select gain = 100V/V.", 9 EP (power) "Exposed pad."

## MAX4072AUA
designator U?
Bidirectional, High-Side Current-Sense Amplifier with Reference Input, 50 V / V, 100 V / V Gain, -40 to 125 degC, 8-Pin SOP (U8-1); PartNumber: MAX4072AUA; Bi-Dir. Curr. Sense: Yes; Industry Qualified: Automotive - General; DatasheetVersion: Rev. 3; PackageVersion: Rev. L, 08/2009; PackageReference: U8-1; PackageDescription: 8-Pin Micro-MAX, Thin Shrink Small-Outline (U8-1), Body 3 x 3 mm, Pitch 0.65mm; Supplier 1: Digi-Key; Supplier Part Number 1: MAX4072AUA-ND; Supplier 2: Mouser; Supplier Part Number 2: 700-MAX4072AUA-NR; Gain: 50 V/V, 100 V/V; Mounting Technology: Surface Mount; Code_JEDEC: MO-187; ComponentLink1Description: Manufacturer URL; ComponentLink1URL: http://www.maximintegrated.com/; ComponentLink2Description: Datasheet; ComponentLink2URL: http://datasheets.maximintegrated.com/en/ds/MAX4069-MAX4072.pdf; ComponentLink3Description: Package Specification; ComponentLink3URL: http://pdfserv.maximintegrated.com/package_dwgs/21-0036.PDF
footprint MAXM-U8-1_N (SOP, 8-Leads, Body 3x3mm, Pitch 0.65mm, IPC Medium Density)
footprint MAXM-U8-1_L (SOP, 8-Leads, Body 3x3mm, Pitch 0.65mm, IPC High Density)
footprint MAXM-U8-1_M (SOP, 8-Leads, Body 3x3mm, Pitch 0.65mm, IPC Low Density)
pins: 1 ~{SHDN} (in) "Shutdown Input. Drive S\H\D\N\ low to select shutdown mode. Connect S\H\D\N\ to VCC for normal operation.", 2 RS- (in) "Negative Connection to the External Sense Resistor", 3 RS+ (in) "Positive Connection to the External Sense Resistor", 4 GND (power) "Ground. For thin QFN packages, also make an external connection from GND to the under-side exposed paddle.", 5 REFIN (in) "Reference Input Voltage.", 6 OUT (hiz) "Voltage Output. The difference voltage, VOUT - VREF, is proportional to the voltage difference between RS+ and RS- and indicates the correct polarity.", 7 VCC (power) "Supply Voltage Input. Bypass VCC to GND with a 0.1uF capacitor.", 8 GSEL (in) "Gain-Setting Input. Connect GSEL low to select gain = 50V/V, or connect GSEL high to select gain = 100V/V."

## MAX4072AUA+
designator U?
Bidirectional, High-Side Current-Sense Amplifier with Reference Input, 50 V / V, 100 V / V Gain, -40 to 125 degC, 8-Pin SOP (U8+1), Pb-Free; PartNumber: MAX4072AUA+; Bi-Dir. Curr. Sense: Yes; Industry Qualified: Automotive - General; DatasheetVersion: Rev. 3; PackageVersion: Rev. L, 08/2009; PackageReference: U8+1; PackageDescription: 8-Pin Micro-MAX, Thin Shrink Small-Outline (U8+1), Body 3 x 3 mm, Pitch 0.65 mm; Supplier 1: Digi-Key; Supplier Part Number 1: MAX4072AUA+-ND; Supplier 2: Mouser; Supplier Part Number 2: 700-MAX4072AUA; Gain: 50 V/V, 100 V/V; Mounting Technology: Surface Mount; Code_JEDEC: MO-187; ComponentLink1Description: Manufacturer URL; ComponentLink1URL: http://www.maximintegrated.com/; ComponentLink2Description: Datasheet; ComponentLink2URL: http://datasheets.maximintegrated.com/en/ds/MAX4069-MAX4072.pdf; ComponentLink3Description: Package Specification; ComponentLink3URL: http://pdfserv.maximintegrated.com/package_dwgs/21-0036.PDF
footprint MAXM-U8+1_N (SOP, 8-Leads, Body 3x3mm, Pitch 0.65mm, IPC Medium Density)
footprint MAXM-U8+1_L (SOP, 8-Leads, Body 3x3mm, Pitch 0.65mm, IPC High Density)
footprint MAXM-U8+1_M (SOP, 8-Leads, Body 3x3mm, Pitch 0.65mm, IPC Low Density)
pins: 1 ~{SHDN} (in) "Shutdown Input. Drive S\H\D\N\ low to select shutdown mode. Connect S\H\D\N\ to VCC for normal operation.", 2 RS- (in) "Negative Connection to the External Sense Resistor", 3 RS+ (in) "Positive Connection to the External Sense Resistor", 4 GND (power) "Ground. For thin QFN packages, also make an external connection from GND to the under-side exposed paddle.", 5 REFIN (in) "Reference Input Voltage.", 6 OUT (hiz) "Voltage Output. The difference voltage, VOUT - VREF, is proportional to the voltage difference between RS+ and RS- and indicates the correct polarity.", 7 VCC (power) "Supply Voltage Input. Bypass VCC to GND with a 0.1uF capacitor.", 8 GSEL (in) "Gain-Setting Input. Connect GSEL low to select gain = 50V/V, or connect GSEL high to select gain = 100V/V."

## MAX4072AUA+T
designator U?
Bidirectional, High-Side Current-Sense Amplifier with Reference Input, 50 V / V, 100 V / V Gain, -40 to 125 degC, 8-Pin SOP (U8+1), Pb-Free, Tape and Reel; PartNumber: MAX4072AUA+T; Bi-Dir. Curr. Sense: Yes; Industry Qualified: Automotive - General; DatasheetVersion: Rev. 3; PackageVersion: Rev. L, 08/2009; PackageReference: U8+1; PackageDescription: 8-Pin Micro-MAX, Thin Shrink Small-Outline (U8+1), Body 3 x 3 mm, Pitch 0.65 mm; Supplier 1: Digi-Key; Supplier Part Number 1: MAX4072AUA+T-ND; Supplier 2: Mouser; Supplier Part Number 2: 700-MAX4072AUA+T; Gain: 50 V/V, 100 V/V; Mounting Technology: Surface Mount; Code_JEDEC: MO-187; ComponentLink1Description: Manufacturer URL; ComponentLink1URL: http://www.maximintegrated.com/; ComponentLink2Description: Datasheet; ComponentLink2URL: http://datasheets.maximintegrated.com/en/ds/MAX4069-MAX4072.pdf; ComponentLink3Description: Package Specification; ComponentLink3URL: http://pdfserv.maximintegrated.com/package_dwgs/21-0036.PDF
footprint MAXM-U8+1_N (SOP, 8-Leads, Body 3x3mm, Pitch 0.65mm, IPC Medium Density)
footprint MAXM-U8+1_L (SOP, 8-Leads, Body 3x3mm, Pitch 0.65mm, IPC High Density)
footprint MAXM-U8+1_M (SOP, 8-Leads, Body 3x3mm, Pitch 0.65mm, IPC Low Density)
pins: 1 ~{SHDN} (in) "Shutdown Input. Drive S\H\D\N\ low to select shutdown mode. Connect S\H\D\N\ to VCC for normal operation.", 2 RS- (in) "Negative Connection to the External Sense Resistor", 3 RS+ (in) "Positive Connection to the External Sense Resistor", 4 GND (power) "Ground. For thin QFN packages, also make an external connection from GND to the under-side exposed paddle.", 5 REFIN (in) "Reference Input Voltage.", 6 OUT (hiz) "Voltage Output. The difference voltage, VOUT - VREF, is proportional to the voltage difference between RS+ and RS- and indicates the correct polarity.", 7 VCC (power) "Supply Voltage Input. Bypass VCC to GND with a 0.1uF capacitor.", 8 GSEL (in) "Gain-Setting Input. Connect GSEL low to select gain = 50V/V, or connect GSEL high to select gain = 100V/V."